# Altium schematic symbol library RpotCustomLib.SchLib: 1 symbol
Pins are listed as number, name and electrical type; pins without a type are passive.

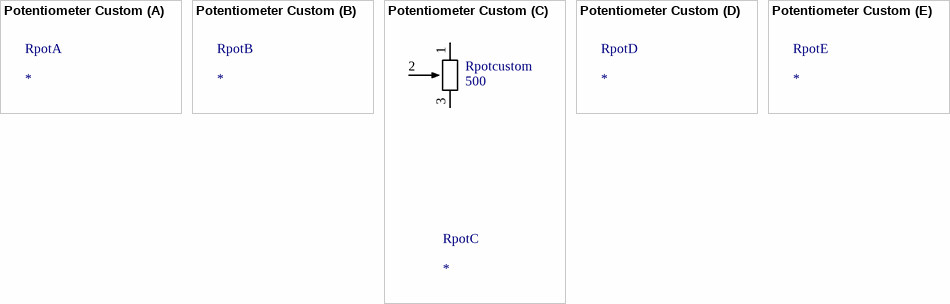
[diagram p0: symbol Potentiometer Custom]

## Potentiometer Custom
designator Rpot
footprint Potentiometer
part C pins: 1, 2, 3
part C text: Rpotcustom; 500